# Altium footprint library MODULE_ESP32_DEVKIT_V1.PcbLib: 1 footprints
Each footprint in its own frame and in the unit in brackets; x right, y up, seen from the top. Pads: shape width x height; smd on the part's side, far side on the other; paste and mask are expansions set on the pad; w line width, h text height; cw(c..) or ccw(c..) is an arc to the next point about the centre after c.
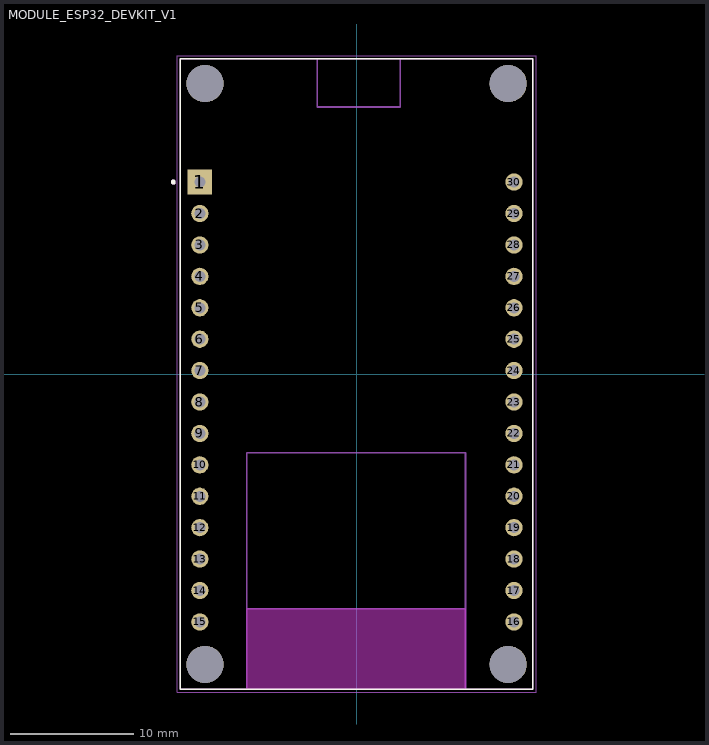
[diagram p0: the footprint, top view; thin cyan lines are the x and y axes]

## MODULE_ESP32_DEVKIT_V1 [mil]
height 267.72
pads (34):
  rect 78.74x78.74 / inner round 78.74 / far side rect 78.74x78.74 hole 35: 1(-500,610.83)
  round 55 hole 35: 2(-500,510.83) 3(-500,410.83) 4(-500,310.83) 5(-500,210.83) 6(-500,110.83) 7(-500,10.83) 8(-500,-89.17) 9(-500,-189.17) 10(-500,-289.17) 11(-500,-389.17) 12(-500,-489.17) 13(-500,-589.17) 14(-500,-689.17) 15(-500,-789.17) 16(500,-789.17) 17(500,-689.17) 18(500,-589.17) 19(500,-489.17) 20(500,-389.17) 21(500,-289.17) 22(500,-189.17) 23(500,-89.17) 24(500,10.83) 25(500,110.83) 26(500,210.83) 27(500,310.83) 28(500,410.83) 29(500,510.83) 30(500,610.83)
  round 118.11 hole 118.11 unplated: ""(-483.46,-924.21) ""(-483.46,924.21) ""(481.5,-924.21) ""(481.5,924.21)
Top Overlay:
  circle w7.87: c-584.65,610.83 r3.94
  lines w5: -562.2,-1002.95 560.24,-1002.95 ; -562.2,-1002.95 -562.2,1002.95 ; -562.2,-1002.95 -562.2,1002.95 ; -562.2,-1002.95 -350.79,-1002.95 345.67,-1002.95 560.24,-1002.95 ; -562.2,1002.95 560.24,1002.95 ; -562.2,1002.95 -126.42,1002.95 137.8,1002.95 560.24,1002.95 ; 560.24,-1002.95 560.24,1002.95 ; 560.24,-1002.95 560.24,1002.95
Keep-Out Layer:
  region: 345.67,-1002.95 -350.79,-1002.95 -350.79,-747.44 345.67,-747.44
  region: 345.67,-1002.95 -350.79,-1002.95 -350.79,-747.44 345.67,-747.44
Mechanical 13:
  circle w7.87: c-584.65,610.83 r3.94
  lines w5: -350.79,-1002.95 -562.2,-1002.95 -562.2,1002.95 -126.42,1002.95 ; -350.79,-1002.95 345.67,-1002.95 ; -350.79,-1002.95 -350.79,-747.44 ; -350.79,-747.44 -350.79,-250.2 345.67,-250.2 345.67,-747.44 ; -350.79,-747.44 345.67,-747.44 ; -126.42,1002.95 137.8,1002.95 ; -126.42,1002.95 -126.42,849.8 137.8,849.8 137.8,1002.95 ; 137.8,1002.95 560.24,1002.95 560.24,-1002.95 345.67,-1002.95 ; 345.67,-1002.95 345.67,-747.44
Mechanical 15:
  lines w1.97: -572.05,-1012.8 -572.05,1012.8 570.08,1012.8 570.08,-1012.8 -572.05,-1012.8